# EAGLE library part ESHF-105-01-L-D-SM-K-TR (library SamacSys_Parts)
Headers & Wire Housings .050" Shrouded Header For FFSD With Strain Relief Source: Datasheet <https://componentsearchengine.com/Datasheets/1/ESHF-105-01-L-D-SM-K-TR.pdf>
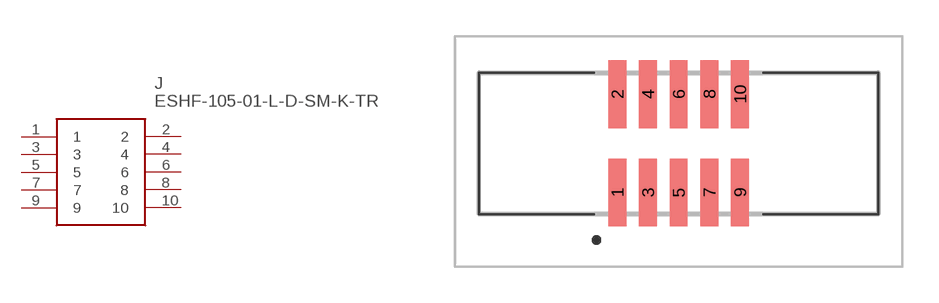
[diagram p111: symbol with the pads of ESHF10501LDSMKTR; footprint ESHF10501LDSMKTR]

Designator prefix J

## ESHF-105-01-L-D-SM-K-TR (DESCRIPTION: Headers & Wire Housings .050" Shrouded Header For FFSD With Strain Relief; HEIGHT: 5.46mm; MANUFACTURER_NAME: SAMTEC; MANUFACTURER_PART_NUMBER: ESHF-105-01-L-D-SM-K-TR; MOUSER_PART_NUMBER: 200-ESHF10501LDSMKTR; MOUSER_PRICE-STOCK: https://www.mouser.co.uk/ProductDetail/Samtec/ESHF-105-01-L-D-SM-K-TR?qs=%252BZP6%2F%252BtExtBMfz1MXZn73w%3D%3D)  [ESHF10501LDSMKTR]
1  1
2  2
3  3
4  4
5  5
6  6
7  7
8  8
9  9
10  10

## Footprint ESHF10501LDSMKTR (pad centres in mm)
ESHF-105-01-L-D-SM-K-TR-3
smd 0.74 x 2.795: 1 -2.54,-2.033; 2 -2.54,2.032; 3 -1.27,-2.033; 4 -1.27,2.032; 5 0,-2.033; 6 0,2.032; 7 1.27,-2.033; 8 1.27,2.032; 9 2.54,-2.033; 10 2.54,2.032